# Altium footprint library PSU_Components.PcbLib: 13 footprints
Each footprint in its own frame and in the unit in brackets; x right, y up, seen from the top. Pads: shape width x height; smd on the part's side, far side on the other; paste and mask are expansions set on the pad; w line width, h text height; cw(c..) or ccw(c..) is an arc to the next point about the centre after c.
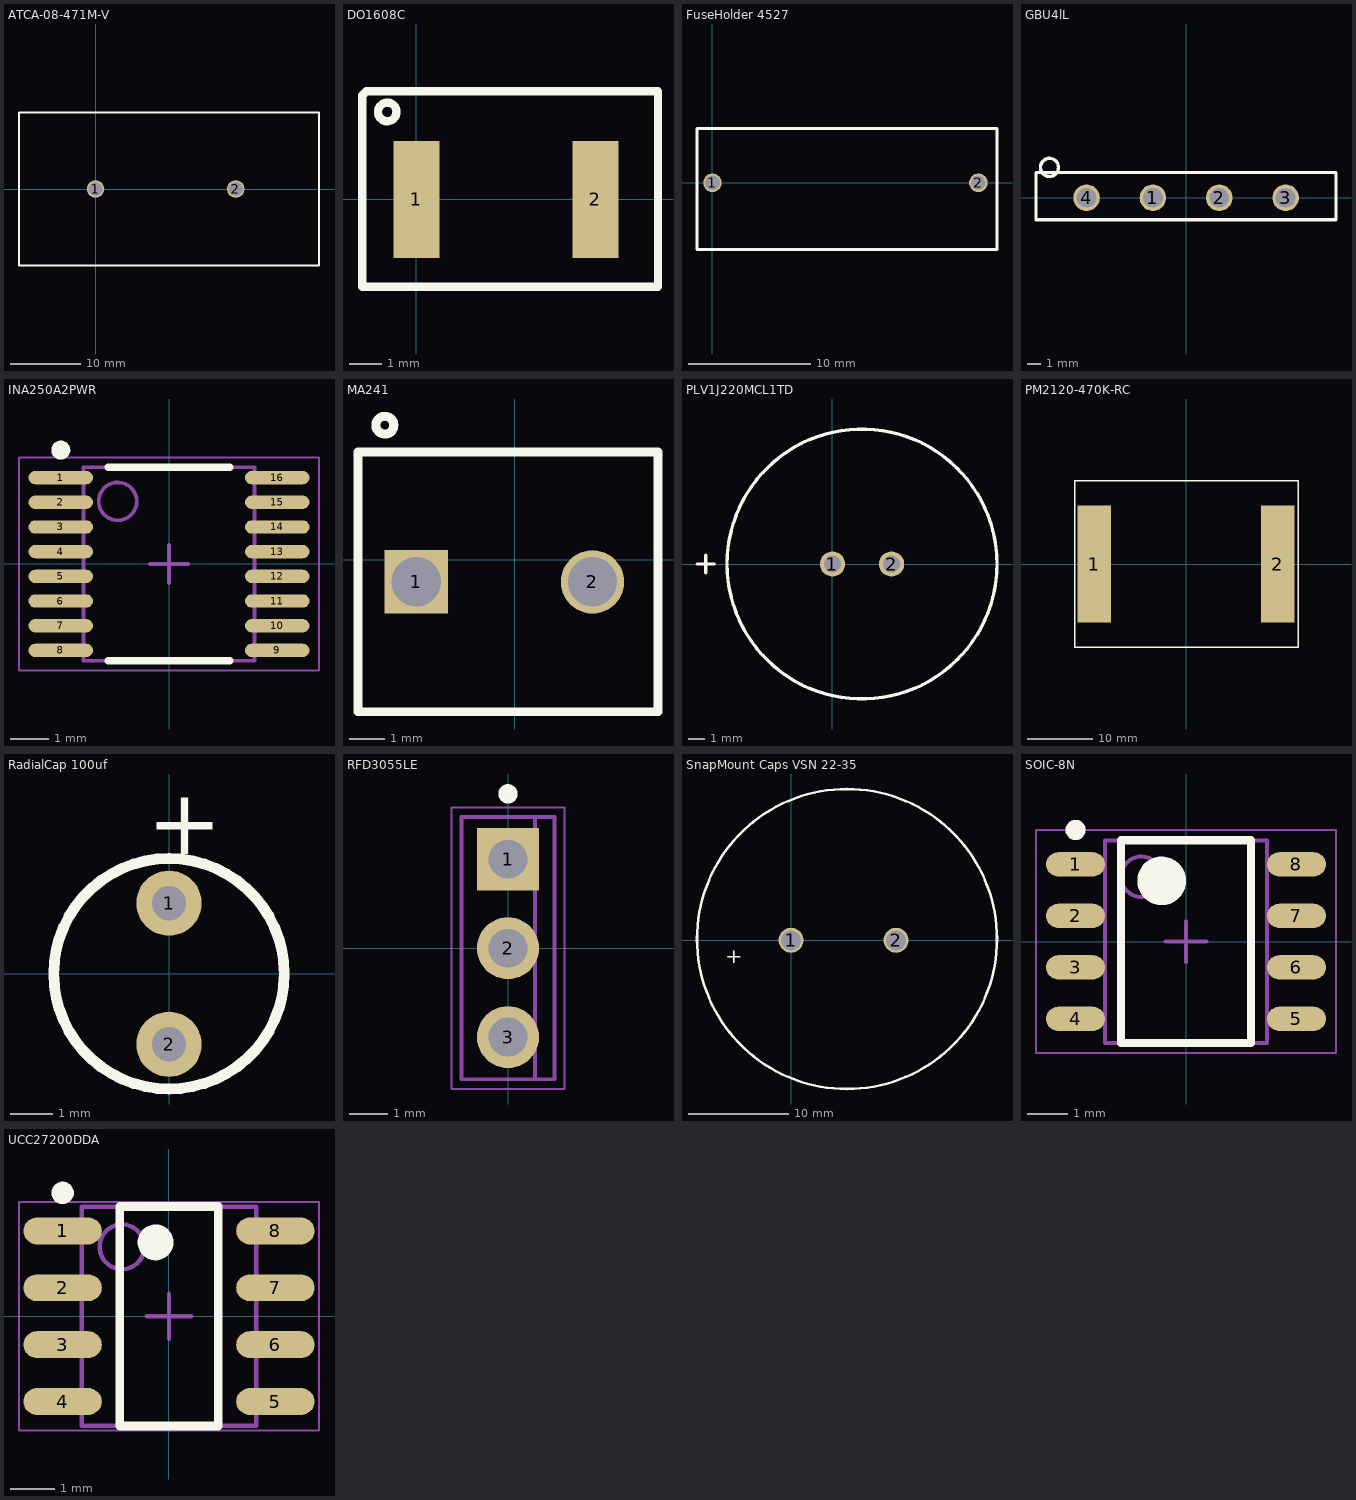
[diagram p0: the footprints below, top view; thin cyan lines are the x and y axes]

## ATCA-08-471M-V [mm] "FIXED IND 470UH 7A 64 MOHM TH"
pads (2):
  round 2.5 hole 2: 1(0,0) 2(20,0)
Top Overlay:
  lines w0.254: -10.922,-10.922 31.877,-10.922 31.877,10.922 -10.922,10.922 -10.922,-10.922
3D body: height 57.5, standoff 15, extent -10.767,-10.75 31.722,10.75

## DO1608C [mm] "-5V"
pads (2):
  rect 1.4x3.56 smd: 1(0,0) 2(5.46,0)
Top Overlay:
  circle w0.254: c-0.889,2.667 r0.284
  lines w0.254: -1.651,-2.667 -1.651,3.175 -1.524,3.302 7.366,3.302 7.366,-2.667 -1.651,-2.667

## FuseHolder 4527 [mil]
height 425.2
pads (2):
  round 60 hole 47.24: 1(0,0) 2(859.84,0)
Top Overlay:
  lines w10: -50,-215 -50,175 920,175 920,-215 -50,-215
3D body: height 405.12, standoff 0, extent -50,-220 920,175
3D body: height 10, standoff 0, extent 155,-55 155,-55

## GBU4lL [mm]
pads (4):
  round 2 hole 1.5: 1(-2.493,0) 2(2.507,0) 3(7.507,0) 4(-7.493,0)
Top Overlay:
  circle w0.254: c-10.287,2.286 r0.684
  lines w0.254: -11.303,-1.651 -11.303,0 -11.303,1.905 11.303,1.905 11.303,-1.651 -11.303,-1.651

## INA250A2PWR [mm] "TSSOP16"
pads (16):
  oval 1.7x0.35 smd: 1(-2.85,2.275) 2(-2.85,1.625) 3(-2.85,0.975) 4(-2.85,0.325) 5(-2.85,-0.325) 6(-2.85,-0.975) 7(-2.85,-1.625) 8(-2.85,-2.275) 9(2.85,-2.275) 10(2.85,-1.625) 11(2.85,-0.975) 12(2.85,-0.325) 13(2.85,0.325) 14(2.85,0.975) 15(2.85,1.625) 16(2.85,2.275)
Top Overlay:
  circle w0.25: c-2.85,3 r0.125
  lines w0.2: -1.6,-2.55 1.6,-2.55 ; -1.6,2.55 1.6,2.55
Mechanical 13:
  circle w0.1: c-1.35,1.65 r0.5
  lines w0.1: -2.25,-2.55 2.25,-2.55 2.25,2.55 -2.25,2.55 -2.25,-2.55
Mechanical 15:
  lines w0.05: -3.95,-2.8 3.95,-2.8 3.95,2.8 -3.95,2.8 -3.95,-2.8
  lines w0.1: -0.5,0 0.5,0 ; 0,-0.5 0,0.5
3D body: height 1.2, standoff 0.03, extent -2.25,-2.55 2.25,2.55

## MA241 [mm] "2 pin connector"
pads (2):
  rect 1.8x1.8 hole 1.4: 1(-2.794,-0.635)
  round 1.8 hole 1.4: 2(2.206,-0.635)
Top Overlay:
  circle w0.254: c-3.683,3.81 r0.254
  lines w0.254: -4.445,-4.318 -4.445,3.048 4.064,3.048 4.064,-4.318 -4.445,-4.318

## PLV1J220MCL1TD [mm] "CAP ALUM POLY 22UF 20% 63V T/H"
height 8.5
pads (2):
  round 1.5 hole 1: 1(0,0) 2(3.5,0)
Top Overlay:
  circle w0.2: c1.75,0 r8
  lines w0.2: -8.03,0 -7.014,0 ; -7.522,-0.508 -7.522,0.508
3D body: height 8.5, standoff 0, extent -6.349,-8 9.651,8

## PM2120-470K-RC [mm] "FIXED IND 47UH 8.2A 19 MOHM SMD"
height 20.07
pads (2):
  rect 5.1x17.8 smd: 1(-14,0) 2(14,0)
Top Overlay:
  lines w0.2: -17.018,-12.7 17.145,-12.7 17.145,12.7 -17.018,12.7 -17.018,-12.7
3D body: height 20.07, standoff 0, extent -12.7,-12.573 12.7,12.82
3D body: height 0.25, standoff 0, extent -2.286,1.778 -2.286,1.778

## RadialCap 100uf [mm] "100uf found in lab"
height 10
pads (2):
  round 1.524 hole 0.8: 1(0,1.65) 2(0,-1.65)
Top Overlay:
  circle w0.254: c0,0 r2.694
  text "+" at -0.508,2.794 h1.52

## RFD3055LE [mm] "TO-251AA Power NMOS"
pads (3):
  rect 1.6x1.6 hole 1: 1(0,2.29)
  round 1.6 hole 1: 2(0,0) 3(0,-2.29)
Top Overlay:
  circle w0.25: c0,3.975 r0.125
Mechanical 13:
  lines w0.1: 0.7,-3.375 0.7,3.375 ; -1.2,-3.375 -1.2,3.375 1.2,3.375 1.2,-3.375 -1.2,-3.375
Mechanical 15:
  lines w0.05: -1.45,-3.625 -1.45,3.625 1.45,3.625 1.45,-3.625 -1.45,-3.625
  lines w0.1: -0.5,0 0.5,0 ; 0,-0.5 0,0.5
3D body: height 0.06, standoff 0, extent -0.26,1.77 0.26,2.81
3D body: height 0.58, standoff 0.06, extent -0.26,1.77 0.26,2.81
3D body: height 0.63, standoff 0.58, extent -0.26,1.77 0.26,2.81
3D body: height 0, standoff -1.6, extent -0.26,1.895 0.26,2.685
3D body: height 0.06, standoff 0, extent -0.26,-0.52 0.26,0.52
3D body: height 0.58, standoff 0.06, extent -0.26,-0.52 0.26,0.52
3D body: height 0.63, standoff 0.58, extent -0.26,-0.52 0.26,0.52
3D body: height 0, standoff -1.6, extent -0.26,-0.395 0.26,0.395
3D body: height 0.06, standoff 0, extent -0.26,-2.81 0.26,-1.77
3D body: height 0.58, standoff 0.06, extent -0.26,-2.81 0.26,-1.77
3D body: height 0.63, standoff 0.58, extent -0.26,-2.81 0.26,-1.77
3D body: height 0, standoff -1.6, extent -0.26,-2.685 0.26,-1.895
3D body: height 7.42, standoff 0.63, extent -1.2,-3.375 1.2,3.375
3D body: height 8.52, standoff 7.42, extent 0.7,-2.475 1.2,2.475

## SnapMount Caps VSN 22-35 [mm] "https://www.mouser.com/datasheet/2/420/48990562506224c250b19-606065.pdf"
height 50
pads (2):
  round 2.5 hole 2: 1(0,0) 2(10.5,0)
Top Overlay:
  circle w0.254: c5.588,0.127 r15
  text "+" at -6.604,-2.286 h1.52

## SOIC-8N [mm] "SOIC, 8-Leads, Body 4.91x3.90mm, Pitch 1.27mm, IPC Medium Density"
height 1.75
pads (8):
  oval 1.45x0.6 smd: 1(-2.725,1.905) 2(-2.725,0.635) 3(-2.725,-0.635) 4(-2.725,-1.905) 5(2.725,-1.905) 6(2.725,-0.635) 7(2.725,0.635) 8(2.725,1.905)
Top Overlay:
  circle w0.25: c-2.725,2.755 r0.125
  circle w0.6: c-0.6,1.5 r0.3
  lines w0.2: -1.6,-2.5 -1.6,2.5 1.6,2.5 1.6,-2.5 -1.6,-2.5
Mechanical 13:
  circle w0.1: c-1.1,1.6 r0.5
  lines w0.1: -2,-2.5 -2,2.5 2,2.5 2,-2.5 -2,-2.5
Mechanical 15:
  lines w0.05: -3.7,-2.75 -3.7,2.75 3.7,2.75 3.7,-2.75 -3.7,-2.75
  lines w0.1: -0.5,0 0.5,0 ; 0,-0.5 0,0.5
3D body: height 1.75, standoff 0.1, extent -2,-2.5 2,2.5

## UCC27200DDA [mm] "IC GATE DRVR HALF-BRIDGE 8SOPWR"
pads (8):
  oval 1.75x0.6 smd: 1(-2.375,1.905) 2(-2.375,0.635) 3(-2.375,-0.635) 4(-2.375,-1.905) 5(2.375,-1.905) 6(2.375,-0.635) 7(2.375,0.635) 8(2.375,1.905)
Top Overlay:
  circle w0.25: c-2.375,2.755 r0.125
  circle w0.4: c-0.3,1.65 r0.2
  lines w0.2: -1.1,-2.45 -1.1,2.45 1.1,2.45 1.1,-2.45 -1.1,-2.45
Mechanical 13:
  circle w0.1: c-1.05,1.55 r0.5
  lines w0.1: -1.95,-2.45 -1.95,2.45 1.95,2.45 1.95,-2.45 -1.95,-2.45
Mechanical 15:
  lines w0.05: -3.35,-2.55 -3.35,2.55 3.35,2.55 3.35,-2.55 -3.35,-2.55
  lines w0.1: -0.5,0 0.5,0 ; 0,-0.5 0,0.5
3D body: height 1.75, standoff 0.1, extent -1.95,-2.45 1.95,2.45